# Altium footprint library Protel 99SE BANKS PCB.PCBLIB: 278 footprints (part 17 of 18)
Each footprint in its own frame and in the unit in brackets; x right, y up, seen from the top. Pads: shape width x height; smd on the part's side, far side on the other; paste and mask are expansions set on the pad; w line width, h text height; cw(c..) or ccw(c..) is an arc to the next point about the centre after c.
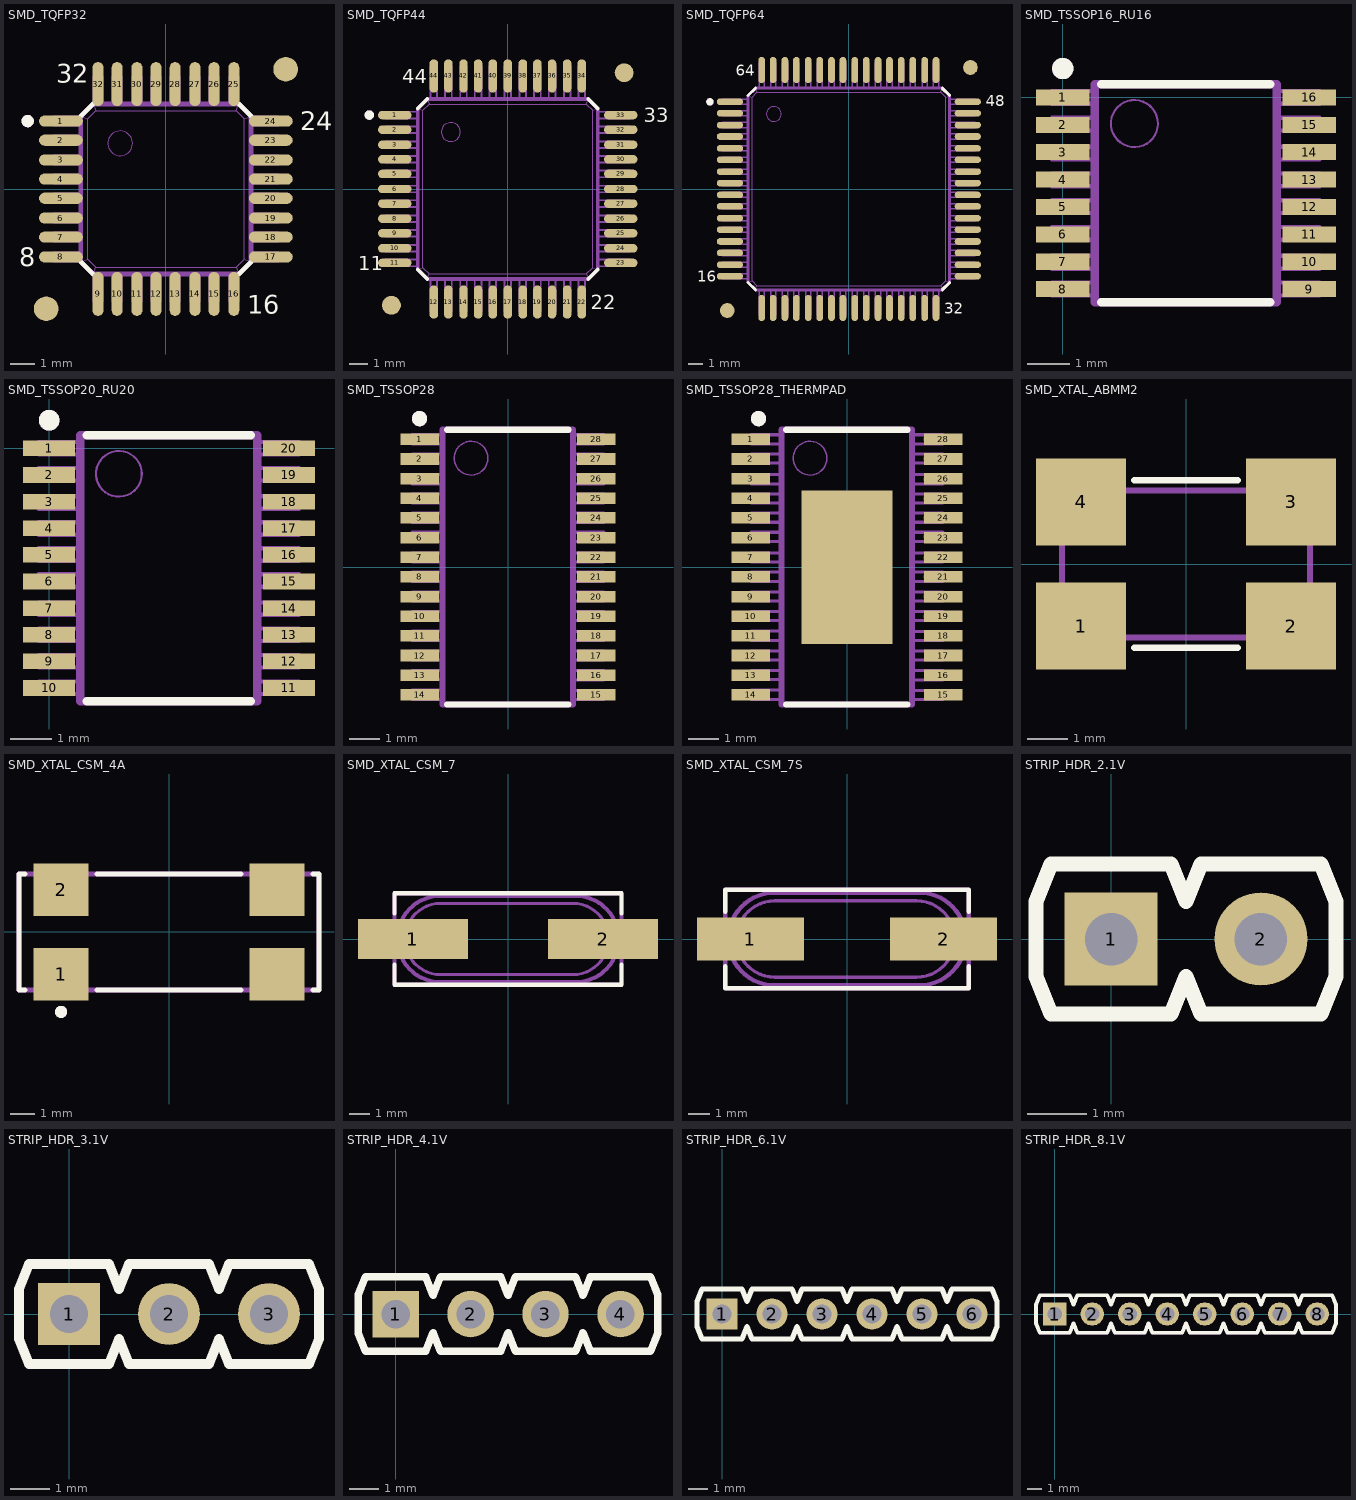
[diagram p16: the footprints below, top view; thin cyan lines are the x and y axes]

## SMD_TQFP32 [mil]
pads (34):
  oval 71x18 smd: 1(-170,110) 2(-170,79) 3(-170,47) 4(-170,16) 5(-170,-15) 6(-170,-47) 7(-170,-78) 8(-170,-110) 17(170,-110) 18(170,-78) 19(170,-47) 20(170,-15) 21(170,16) 22(170,47) 23(170,79) 24(170,110)
  oval 18x71 smd: 9(-110,-170) 10(-79,-170) 11(-47,-170) 12(-16,-170) 13(15,-170) 14(47,-170) 15(78,-170) 16(110,-170) 25(110,170) 26(78,170) 27(47,170) 28(15,170) 29(-16,170) 30(-47,170) 31(-79,170) 32(-110,170)
  round 40 smd: ""(-194,-194) ""(194,194)
TopOverlay:
  circle w8: c-224,110 r6
  lines w8: -228,110 -220,110 ; -224,106 -224,114 ; -138,-118 -118,-138 ; -138,118 -118,138 ; 118,-138 138,-118 ; 118,138 138,118
  text "8" at -238,-125 h30
  text "24" at 218,95 h30
  text "16" at 132,-202 h30
  text "32" at -178,172 h30
Mechanical3:
  drawing of 188 lines, arcs and shapes, not listed

## SMD_TQFP44 [mil]
pads (46):
  oval 71x18 smd: 1(-240,157) 2(-240,126) 3(-240,94) 4(-240,63) 5(-240,32) 6(-240,0) 7(-240,-31) 8(-240,-63) 9(-240,-94) 10(-240,-126) 11(-240,-157) 23(240,-157) 24(240,-126) 25(240,-94) 26(240,-63) 27(240,-31) 28(240,0) 29(240,32) 30(240,63) 31(240,94) 32(240,126) 33(240,157)
  oval 18x71 smd: 12(-157,-240) 13(-126,-240) 14(-94,-240) 15(-63,-240) 16(-32,-240) 17(0,-240) 18(32,-240) 19(63,-240) 20(94,-240) 21(126,-240) 22(157,-240) 34(157,240) 35(126,240) 36(94,240) 37(63,240) 38(32,240) 39(0,240) 40(-32,240) 41(-63,240) 42(-94,240) 43(-126,240) 44(-157,240)
  round 40 smd: ""(-247,-247) ""(247,247)
TopOverlay:
  circle w8: c-294,157 r6
  lines w8: -298,157 -290,157 ; -294,153 -294,161 ; -191,-171 -171,-191 ; -191,171 -171,191 ; 171,-191 191,-171 ; 171,191 191,171
  text "11" at -318,-172 h30
  text "33" at 289,142 h30
  text "22" at 176,-255 h30
  text "44" at -224,225 h30
Mechanical3:
  drawing of 248 lines, arcs and shapes, not listed

## SMD_TQFP64 [mil]
pads (66):
  oval 71x18 smd: 1(-322,236) 2(-322,205) 3(-322,173) 4(-322,142) 5(-322,110) 6(-322,79) 7(-322,47) 8(-322,16) 9(-322,-16) 10(-322,-47) 11(-322,-79) 12(-322,-110) 13(-322,-142) 14(-322,-173) 15(-322,-205) 16(-322,-236) 33(322,-236) 34(322,-205) 35(322,-173) 36(322,-142) 37(322,-110) 38(322,-79) 39(322,-47) 40(322,-16) 41(322,16) 42(322,47) 43(322,79) 44(322,110) 45(322,142) 46(322,173) 47(322,205) 48(322,236)
  oval 18x71 smd: 17(-236,-322) 18(-205,-322) 19(-173,-322) 20(-142,-322) 21(-110,-322) 22(-79,-322) 23(-47,-322) 24(-16,-322) 25(16,-322) 26(47,-322) 27(79,-322) 28(110,-322) 29(142,-322) 30(173,-322) 31(205,-322) 32(236,-322) 49(236,322) 50(205,322) 51(173,322) 52(142,322) 53(110,322) 54(79,322) 55(47,322) 56(16,322) 57(-16,322) 58(-47,322) 59(-79,322) 60(-110,322) 61(-142,322) 62(-173,322) 63(-205,322) 64(-236,322)
  round 40 smd: ""(-329,-329) ""(329,329)
TopOverlay:
  circle w8: c-376,236 r6
  lines w8: -380,236 -372,236 ; -376,232 -376,240 ; -273,-253 -253,-273 ; -273,253 -253,273 ; 253,-273 273,-253 ; 253,273 273,253
  text "64" at -306,307 h30
  text "32" at 258,-337 h30
  text "48" at 371,224 h30
  text "16" at -411,-251 h30
Mechanical3:
  drawing of 348 lines, arcs and shapes, not listed

## SMD_TSSOP16_RU16 [mm]
pads (16):
  rect 1.27x0.381 smd: 1(0,0) 2(0,-0.65) 3(0,-1.3) 4(0,-1.95) 5(0,-2.6) 6(0,-3.25) 7(0,-3.9) 8(0,-4.55) 9(5.85,-4.55) 10(5.85,-3.9) 11(5.85,-3.25) 12(5.85,-2.6) 13(5.85,-1.95) 14(5.85,-1.3) 15(5.85,-0.65) 16(5.85,0)
TopOverlay:
  circle w0.203: c0,0.686 r0.152
  lines w0.203: -0.102,0.686 0.102,0.686 ; 0,0.584 0,0.787 ; 0.914,-4.864 4.928,-4.864 ; 0.914,0.318 4.928,0.318
Mechanical3:
  circle w0.203: c0,0.686 r0.152
  circle w0.051: c1.702,-0.622 r0.559
  lines w0.051: 0.076,-4.597 0.076,-4.496 ; 0.076,-3.962 0.076,-3.861 ; 0.076,-3.277 0.076,-3.175 ; 0.076,-2.642 0.076,-2.54 ; 0.076,-2.007 0.076,-1.905 ; 0.076,-1.372 0.076,-1.27 ; 0.076,-0.686 0.076,-0.584 ; 0.076,-0.051 0.076,0.051 ; 0.356,-4.597 0.356,-4.496 ; 0.356,-3.962 0.356,-3.861 ; 0.356,-3.277 0.356,-3.175 ; 0.356,-2.642 0.356,-2.54 ; 0.356,-2.007 0.356,-1.905 ; 0.356,-1.372 0.356,-1.27 ; 0.356,-0.686 0.356,-0.584 ; 0.356,-0.051 0.356,0.051 ; 5.486,-4.597 5.486,-4.496 ; 5.486,-3.962 5.486,-3.861 ; 5.486,-3.277 5.486,-3.175 ; 5.486,-2.642 5.486,-2.54 ; 5.486,-2.007 5.486,-1.905 ; 5.486,-1.372 5.486,-1.27 ; 5.486,-0.686 5.486,-0.584 ; 5.486,-0.051 5.486,0.051 ; 5.766,-4.597 5.766,-4.496 ; 5.766,-3.962 5.766,-3.861 ; 5.766,-3.277 5.766,-3.175 ; 5.766,-2.642 5.766,-2.54 ; 5.766,-2.007 5.766,-1.905 ; 5.766,-1.372 5.766,-1.27 ; 5.766,-0.686 5.766,-0.584 ; 5.766,-0.051 5.766,0.051
  lines w0.102: 0.762,-4.699 -0.254,-4.699 -0.254,-4.394 0.762,-4.394 ; 0.762,-4.064 -0.254,-4.064 -0.254,-3.759 0.762,-3.759 ; 0.762,-3.378 -0.254,-3.378 -0.254,-3.073 0.762,-3.073 ; 0.762,-2.743 -0.254,-2.743 -0.254,-2.438 0.762,-2.438 ; 0.762,-2.108 -0.254,-2.108 -0.254,-1.803 0.762,-1.803 ; 0.762,-1.473 -0.254,-1.473 -0.254,-1.168 0.762,-1.168 ; 0.762,-0.787 -0.254,-0.787 -0.254,-0.483 0.762,-0.483 ; 0.762,-0.152 -0.254,-0.152 -0.254,0.152 0.762,0.152 ; 5.08,-4.699 6.096,-4.699 6.096,-4.394 5.08,-4.394 ; 5.08,-4.064 6.096,-4.064 6.096,-3.759 5.08,-3.759 ; 5.08,-3.378 6.096,-3.378 6.096,-3.073 5.08,-3.073 ; 5.08,-2.743 6.096,-2.743 6.096,-2.438 5.08,-2.438 ; 5.08,-2.108 6.096,-2.108 6.096,-1.803 5.08,-1.803 ; 5.08,-1.473 6.096,-1.473 6.096,-1.168 5.08,-1.168 ; 5.08,-0.787 6.096,-0.787 6.096,-0.483 5.08,-0.483 ; 5.08,-0.152 6.096,-0.152 6.096,0.152 5.08,0.152
  lines w0.203: -0.102,0.686 0.102,0.686 ; 0,0.584 0,0.787 ; 0.762,-4.864 0.762,0.318 5.08,0.318 5.08,-4.864 0.762,-4.864

## SMD_TSSOP20_RU20 [mm]
pads (20):
  rect 1.27x0.381 smd: 1(0,0) 2(0,-0.65) 3(0,-1.3) 4(0,-1.95) 5(0,-2.6) 6(0,-3.25) 7(0,-3.9) 8(0,-4.55) 9(0,-5.2) 10(0,-5.85) 11(5.85,-5.85) 12(5.85,-5.2) 13(5.85,-4.55) 14(5.85,-3.9) 15(5.85,-3.25) 16(5.85,-2.6) 17(5.85,-1.95) 18(5.85,-1.3) 19(5.85,-0.65) 20(5.85,0)
TopOverlay:
  circle w0.203: c0,0.686 r0.152
  lines w0.203: -0.102,0.686 0.102,0.686 ; 0,0.584 0,0.787 ; 0.914,-6.172 4.928,-6.172 ; 0.914,0.318 4.928,0.318
Mechanical3:
  circle w0.051: c1.702,-0.622 r0.559
  circle w0.203: c0,0.686 r0.152
  lines w0.051: 0.076,-5.897 0.076,-5.796 ; 0.076,-5.247 0.076,-5.146 ; 0.076,-4.597 0.076,-4.496 ; 0.076,-3.962 0.076,-3.861 ; 0.076,-3.277 0.076,-3.175 ; 0.076,-2.642 0.076,-2.54 ; 0.076,-2.007 0.076,-1.905 ; 0.076,-1.372 0.076,-1.27 ; 0.076,-0.686 0.076,-0.584 ; 0.076,-0.051 0.076,0.051 ; 0.356,-5.897 0.356,-5.796 ; 0.356,-5.247 0.356,-5.146 ; 0.356,-4.597 0.356,-4.496 ; 0.356,-3.962 0.356,-3.861 ; 0.356,-3.277 0.356,-3.175 ; 0.356,-2.642 0.356,-2.54 ; 0.356,-2.007 0.356,-1.905 ; 0.356,-1.372 0.356,-1.27 ; 0.356,-0.686 0.356,-0.584 ; 0.356,-0.051 0.356,0.051 ; 5.486,-5.897 5.486,-5.796 ; 5.486,-5.247 5.486,-5.146 ; 5.486,-4.597 5.486,-4.496 ; 5.486,-3.962 5.486,-3.861 ; 5.486,-3.277 5.486,-3.175 ; 5.486,-2.642 5.486,-2.54 ; 5.486,-2.007 5.486,-1.905 ; 5.486,-1.372 5.486,-1.27 ; 5.486,-0.686 5.486,-0.584 ; 5.486,-0.051 5.486,0.051 ; 5.766,-5.897 5.766,-5.796 ; 5.766,-5.247 5.766,-5.146 ; 5.766,-4.597 5.766,-4.496 ; 5.766,-3.962 5.766,-3.861 ; 5.766,-3.277 5.766,-3.175 ; 5.766,-2.642 5.766,-2.54 ; 5.766,-2.007 5.766,-1.905 ; 5.766,-1.372 5.766,-1.27 ; 5.766,-0.686 5.766,-0.584 ; 5.766,-0.051 5.766,0.051
  lines w0.102: 0.762,-5.999 -0.254,-5.999 -0.254,-5.694 0.762,-5.694 ; 0.762,-5.349 -0.254,-5.349 -0.254,-5.044 0.762,-5.044 ; 0.762,-4.699 -0.254,-4.699 -0.254,-4.394 0.762,-4.394 ; 0.762,-4.064 -0.254,-4.064 -0.254,-3.759 0.762,-3.759 ; 0.762,-3.378 -0.254,-3.378 -0.254,-3.073 0.762,-3.073 ; 0.762,-2.743 -0.254,-2.743 -0.254,-2.438 0.762,-2.438 ; 0.762,-2.108 -0.254,-2.108 -0.254,-1.803 0.762,-1.803 ; 0.762,-1.473 -0.254,-1.473 -0.254,-1.168 0.762,-1.168 ; 0.762,-0.787 -0.254,-0.787 -0.254,-0.483 0.762,-0.483 ; 0.762,-0.152 -0.254,-0.152 -0.254,0.152 0.762,0.152 ; 5.08,-5.999 6.096,-5.999 6.096,-5.694 5.08,-5.694 ; 5.08,-5.349 6.096,-5.349 6.096,-5.044 5.08,-5.044 ; 5.08,-4.699 6.096,-4.699 6.096,-4.394 5.08,-4.394 ; 5.08,-4.064 6.096,-4.064 6.096,-3.759 5.08,-3.759 ; 5.08,-3.378 6.096,-3.378 6.096,-3.073 5.08,-3.073 ; 5.08,-2.743 6.096,-2.743 6.096,-2.438 5.08,-2.438 ; 5.08,-2.108 6.096,-2.108 6.096,-1.803 5.08,-1.803 ; 5.08,-1.473 6.096,-1.473 6.096,-1.168 5.08,-1.168 ; 5.08,-0.787 6.096,-0.787 6.096,-0.483 5.08,-0.483 ; 5.08,-0.152 6.096,-0.152 6.096,0.152 5.08,0.152
  lines w0.203: -0.102,0.686 0.102,0.686 ; 0,0.584 0,0.787 ; 0.762,0.305 0.762,-6.172 5.08,-6.172 5.08,0.305 ; 0.762,0.318 5.08,0.318

## SMD_TSSOP28 [mm]
pads (28):
  rect 1.27x0.381 smd: 1(-2.925,4.225) 2(-2.925,3.575) 3(-2.925,2.925) 4(-2.925,2.275) 5(-2.925,1.625) 6(-2.925,0.975) 7(-2.925,0.325) 8(-2.925,-0.325) 9(-2.925,-0.975) 10(-2.925,-1.625) 11(-2.925,-2.275) 12(-2.925,-2.925) 13(-2.925,-3.575) 14(-2.925,-4.225) 15(2.925,-4.225) 16(2.925,-3.575) 17(2.925,-2.925) 18(2.925,-2.275) 19(2.925,-1.625) 20(2.925,-0.975) 21(2.925,-0.325) 22(2.925,0.325) 23(2.925,0.975) 24(2.925,1.625) 25(2.925,2.275) 26(2.925,2.925) 27(2.925,3.575) 28(2.925,4.225)
TopOverlay:
  circle w0.203: c-2.925,4.911 r0.152
  lines w0.203: -3.027,4.911 -2.823,4.911 ; -2.925,4.809 -2.925,5.012 ; -2.011,-4.547 2.003,-4.547 ; -2.011,4.543 2.003,4.543
Mechanical3:
  circle w0.203: c-2.925,4.911 r0.152
  circle w0.051: c-1.223,3.603 r0.559
  lines w0.051: -2.849,-4.272 -2.849,-4.171 ; -2.849,-3.622 -2.849,-3.521 ; -2.849,-2.972 -2.849,-2.871 ; -2.849,-2.322 -2.849,-2.221 ; -2.849,-1.672 -2.849,-1.571 ; -2.849,-1.022 -2.849,-0.921 ; -2.849,-0.372 -2.849,-0.271 ; -2.849,0.263 -2.849,0.364 ; -2.849,0.948 -2.849,1.05 ; -2.849,1.583 -2.849,1.685 ; -2.849,2.218 -2.849,2.32 ; -2.849,2.853 -2.849,2.955 ; -2.849,3.539 -2.849,3.641 ; -2.849,4.174 -2.849,4.276 ; -2.569,-4.272 -2.569,-4.171 ; -2.569,-3.622 -2.569,-3.521 ; -2.569,-2.972 -2.569,-2.871 ; -2.569,-2.322 -2.569,-2.221 ; -2.569,-1.672 -2.569,-1.571 ; -2.569,-1.022 -2.569,-0.921 ; -2.569,-0.372 -2.569,-0.271 ; -2.569,0.263 -2.569,0.364 ; -2.569,0.948 -2.569,1.05 ; -2.569,1.583 -2.569,1.685 ; -2.569,2.218 -2.569,2.32 ; -2.569,2.853 -2.569,2.955 ; -2.569,3.539 -2.569,3.641 ; -2.569,4.174 -2.569,4.276 ; 2.561,-1.672 2.561,-1.571 ; 2.561,-1.022 2.561,-0.921 ; 2.561,-0.372 2.561,-0.271 ; 2.561,0.263 2.561,0.364 ; 2.561,0.948 2.561,1.05 ; 2.561,1.583 2.561,1.685 ; 2.561,2.218 2.561,2.32 ; 2.561,2.853 2.561,2.955 ; 2.561,3.539 2.561,3.641 ; 2.561,4.174 2.561,4.276 ; 2.569,-4.279 2.569,-4.178 ; 2.569,-3.629 2.569,-3.528 ; 2.569,-2.979 2.569,-2.878 ; 2.569,-2.329 2.569,-2.228 ; 2.841,-1.672 2.841,-1.571 ; 2.841,-1.022 2.841,-0.921 ; 2.841,-0.372 2.841,-0.271 ; 2.841,0.263 2.841,0.364 ; 2.841,0.948 2.841,1.05 ; 2.841,1.583 2.841,1.685 ; 2.841,2.218 2.841,2.32 ; 2.841,2.853 2.841,2.955 ; 2.841,3.539 2.841,3.641 ; 2.841,4.174 2.841,4.276 ; 2.849,-4.279 2.849,-4.178 ; 2.849,-3.629 2.849,-3.528 ; 2.849,-2.979 2.849,-2.878 ; 2.849,-2.329 2.849,-2.228
  lines w0.102: -2.163,-4.374 -3.179,-4.374 -3.179,-4.069 -2.163,-4.069 ; -2.163,-3.724 -3.179,-3.724 -3.179,-3.419 -2.163,-3.419 ; -2.163,-3.074 -3.179,-3.074 -3.179,-2.769 -2.163,-2.769 ; -2.163,-2.424 -3.179,-2.424 -3.179,-2.119 -2.163,-2.119 ; -2.163,-1.774 -3.179,-1.774 -3.179,-1.469 -2.163,-1.469 ; -2.163,-1.124 -3.179,-1.124 -3.179,-0.819 -2.163,-0.819 ; -2.163,-0.474 -3.179,-0.474 -3.179,-0.169 -2.163,-0.169 ; -2.163,0.161 -3.179,0.161 -3.179,0.466 -2.163,0.466 ; -2.163,0.847 -3.179,0.847 -3.179,1.152 -2.163,1.152 ; -2.163,1.482 -3.179,1.482 -3.179,1.787 -2.163,1.787 ; -2.163,2.117 -3.179,2.117 -3.179,2.422 -2.163,2.422 ; -2.163,2.752 -3.179,2.752 -3.179,3.057 -2.163,3.057 ; -2.163,3.438 -3.179,3.438 -3.179,3.742 -2.163,3.742 ; -2.163,4.073 -3.179,4.073 -3.179,4.377 -2.163,4.377 ; 2.155,-1.774 3.171,-1.774 3.171,-1.469 2.155,-1.469 ; 2.155,-1.124 3.171,-1.124 3.171,-0.819 2.155,-0.819 ; 2.155,-0.474 3.171,-0.474 3.171,-0.169 2.155,-0.169 ; 2.155,0.161 3.171,0.161 3.171,0.466 2.155,0.466 ; 2.155,0.847 3.171,0.847 3.171,1.152 2.155,1.152 ; 2.155,1.482 3.171,1.482 3.171,1.787 2.155,1.787 ; 2.155,2.117 3.171,2.117 3.171,2.422 2.155,2.422 ; 2.155,2.752 3.171,2.752 3.171,3.057 2.155,3.057 ; 2.155,3.438 3.171,3.438 3.171,3.742 2.155,3.742 ; 2.155,4.073 3.171,4.073 3.171,4.377 2.155,4.377 ; 2.163,-4.381 3.179,-4.381 3.179,-4.076 2.163,-4.076 ; 2.163,-3.731 3.179,-3.731 3.179,-3.426 2.163,-3.426 ; 2.163,-3.081 3.179,-3.081 3.179,-2.776 2.163,-2.776 ; 2.163,-2.431 3.179,-2.431 3.179,-2.126 2.163,-2.126
  lines w0.203: -3.027,4.911 -2.823,4.911 ; -2.925,4.809 -2.925,5.012 ; -2.163,-4.547 2.155,-4.547 ; -2.163,-4.538 -2.163,-1.947 -2.163,4.53 ; -2.163,4.543 2.155,4.543 ; 2.155,-4.538 2.155,-1.947 2.155,4.53

## SMD_TSSOP28_THERMPAD [mil]
pads (29):
  rect 50x15 smd: 1(-125.16,166.34) 2(-125.16,140.75) 3(-125.16,115.16) 4(-125.16,89.57) 5(-125.16,63.98) 6(-125.16,38.39) 7(-125.16,12.8) 8(-125.16,-12.8) 9(-125.16,-38.39) 10(-125.16,-63.98) 11(-125.16,-89.57) 12(-125.16,-115.16) 13(-125.16,-140.75) 14(-125.16,-166.34) 15(125.16,-166.34) 16(125.16,-140.75) 17(125.16,-115.16) 18(125.16,-89.57) 19(125.16,-63.98) 20(125.16,-38.39) 21(125.16,-12.8) 22(125.16,12.8) 23(125.16,38.39) 24(125.16,63.98) 25(125.16,89.57) 26(125.16,115.16) 27(125.16,140.75) 28(125.16,166.34)
  rect 118x200 smd: ""(0,0)
TopOverlay:
  circle w8: c-115.16,193.34 r6
  lines w8: -119.16,193.34 -111.16,193.34 ; -115.16,189.34 -115.16,197.34 ; -79.16,-179.02 78.84,-179.02 ; -79.16,178.84 78.84,178.84
Mechanical3:
  circle w2: c-48.16,141.84 r22
  circle w8: c-115.16,193.34 r6
  lines w2: -112.16,-168.2 -112.16,-164.2 ; -112.16,-142.61 -112.16,-138.61 ; -112.16,-117.02 -112.16,-113.02 ; -112.16,-91.43 -112.16,-87.43 ; -112.16,-65.84 -112.16,-61.84 ; -112.16,-40.25 -112.16,-36.25 ; -112.16,-14.66 -112.16,-10.66 ; -112.16,10.34 -112.16,14.34 ; -112.16,37.34 -112.16,41.34 ; -112.16,62.34 -112.16,66.34 ; -112.16,87.34 -112.16,91.34 ; -112.16,112.34 -112.16,116.34 ; -112.16,139.34 -112.16,143.34 ; -112.16,164.34 -112.16,168.34 ; -101.16,-168.2 -101.16,-164.2 ; -101.16,-142.61 -101.16,-138.61 ; -101.16,-117.02 -101.16,-113.02 ; -101.16,-91.43 -101.16,-87.43 ; -101.16,-65.84 -101.16,-61.84 ; -101.16,-40.25 -101.16,-36.25 ; -101.16,-14.66 -101.16,-10.66 ; -101.16,10.34 -101.16,14.34 ; -101.16,37.34 -101.16,41.34 ; -101.16,62.34 -101.16,66.34 ; -101.16,87.34 -101.16,91.34 ; -101.16,112.34 -101.16,116.34 ; -101.16,139.34 -101.16,143.34 ; -101.16,164.34 -101.16,168.34 ; 100.84,-65.84 100.84,-61.84 ; 100.84,-40.25 100.84,-36.25 ; 100.84,-14.66 100.84,-10.66 ; 100.84,10.34 100.84,14.34 ; 100.84,37.34 100.84,41.34 ; 100.84,62.34 100.84,66.34 ; 100.84,87.34 100.84,91.34 ; 100.84,112.34 100.84,116.34 ; 100.84,139.34 100.84,143.34 ; 100.84,164.34 100.84,168.34 ; 101.16,-168.47 101.16,-164.47 ; 101.16,-142.88 101.16,-138.88 ; 101.16,-117.29 101.16,-113.29 ; 101.16,-91.7 101.16,-87.7 ; 111.84,-65.84 111.84,-61.84 ; 111.84,-40.25 111.84,-36.25 ; 111.84,-14.66 111.84,-10.66 ; 111.84,10.34 111.84,14.34 ; 111.84,37.34 111.84,41.34 ; 111.84,62.34 111.84,66.34 ; 111.84,87.34 111.84,91.34 ; 111.84,112.34 111.84,116.34 ; 111.84,139.34 111.84,143.34 ; 111.84,164.34 111.84,168.34 ; 112.16,-168.47 112.16,-164.47 ; 112.16,-142.88 112.16,-138.88 ; 112.16,-117.29 112.16,-113.29 ; 112.16,-91.7 112.16,-87.7
  lines w4: -85.16,-172.2 -125.16,-172.2 -125.16,-160.2 -85.16,-160.2 ; -85.16,-146.61 -125.16,-146.61 -125.16,-134.61 -85.16,-134.61 ; -85.16,-121.02 -125.16,-121.02 -125.16,-109.02 -85.16,-109.02 ; -85.16,-95.43 -125.16,-95.43 -125.16,-83.43 -85.16,-83.43 ; -85.16,-69.84 -125.16,-69.84 -125.16,-57.84 -85.16,-57.84 ; -85.16,-44.25 -125.16,-44.25 -125.16,-32.25 -85.16,-32.25 ; -85.16,-18.66 -125.16,-18.66 -125.16,-6.66 -85.16,-6.66 ; -85.16,6.34 -125.16,6.34 -125.16,18.34 -85.16,18.34 ; -85.16,33.34 -125.16,33.34 -125.16,45.34 -85.16,45.34 ; -85.16,58.34 -125.16,58.34 -125.16,70.34 -85.16,70.34 ; -85.16,83.34 -125.16,83.34 -125.16,95.34 -85.16,95.34 ; -85.16,108.34 -125.16,108.34 -125.16,120.34 -85.16,120.34 ; -85.16,135.34 -125.16,135.34 -125.16,147.34 -85.16,147.34 ; -85.16,160.34 -125.16,160.34 -125.16,172.34 -85.16,172.34 ; 84.84,-69.84 124.84,-69.84 124.84,-57.84 84.84,-57.84 ; 84.84,-44.25 124.84,-44.25 124.84,-32.25 84.84,-32.25 ; 84.84,-18.66 124.84,-18.66 124.84,-6.66 84.84,-6.66 ; 84.84,6.34 124.84,6.34 124.84,18.34 84.84,18.34 ; 84.84,33.34 124.84,33.34 124.84,45.34 84.84,45.34 ; 84.84,58.34 124.84,58.34 124.84,70.34 84.84,70.34 ; 84.84,83.34 124.84,83.34 124.84,95.34 84.84,95.34 ; 84.84,108.34 124.84,108.34 124.84,120.34 84.84,120.34 ; 84.84,135.34 124.84,135.34 124.84,147.34 84.84,147.34 ; 84.84,160.34 124.84,160.34 124.84,172.34 84.84,172.34 ; 85.16,-172.47 125.16,-172.47 125.16,-160.47 85.16,-160.47 ; 85.16,-146.88 125.16,-146.88 125.16,-134.88 85.16,-134.88 ; 85.16,-121.29 125.16,-121.29 125.16,-109.29 85.16,-109.29 ; 85.16,-95.7 125.16,-95.7 125.16,-83.7 85.16,-83.7
  lines w8: -119.16,193.34 -111.16,193.34 ; -115.16,189.34 -115.16,197.34 ; -85.16,-179.02 84.84,-179.02 ; -85.16,-178.66 -85.16,-76.66 -85.16,178.34 ; -85.16,178.84 84.84,178.84 ; 84.84,-178.66 84.84,-76.66 84.84,178.34

## SMD_XTAL_ABMM2 [mil]
pads (4):
  rect 87x84 smd: 1(-101.5,-60) 2(101.5,-60) 3(101.5,60) 4(-101.5,60)
TopOverlay:
  lines w6: -50,-81 50,-81 ; -50,81 50,81
Mechanical3:
  lines w6: -120,-35.5 -120,61 -110,71 -90,71 -30,71 0,71 110,71 120,61 120,-61 110,-71 -110,-71 -120,-61 -120,-35

## SMD_XTAL_CSM_4A [mil]
pads (4):
  rect 90x86 smd: 1(-177,-69) 2(-177,69) ""(177,-69) ""(177,69)
TopOverlay:
  circle w8: c-177,-131 r6
  lines w8: -236,-95 -246,-95 -246,95 -236,95 ; -181,-131 -173,-131 ; -177,-135 -177,-127 ; -118,-95 118,-95 ; -118,95 118,95 ; 236,-95 246,-95 246,95 236,95
Mechanical3:
  circle w8: c-177,-131 r6
  lines w8: -181,-131 -173,-131 ; -177,-135 -177,-127 ; -246,-95 246,-95 246,95 -246,95 -246,-95

## SMD_XTAL_CSM_7 [mil]
pads (2):
  rect 216x78 smd: 1(-187,0) 2(187,0)
TopOverlay:
  lines w8: -223,-50 -223,-90 223,-90 223,-50 ; -223,50 -223,90 223,90 223,50
Mechanical3:
  lines w4: -223,-12 -250,-12 -250,12 -223,12 ; 223,-12 250,-12 250,12 223,12
  lines w6: -132.5,-70 cw(c-132.5,0) -132.5,70 127.5,70 cw(c127.5,0) 127.5,-70 -132.5,-70
  lines w8: -223,-90 223,-90 223,90 -223,90 -223,-90 ; -132.5,-85 cw(c-132.5,0) -132.5,85 132.5,85 cw(c132.5,0) 132.5,-85 -132.5,-85

## SMD_XTAL_CSM_7S [mil]
pads (2):
  rect 196x78 smd: 1(-177,0) 2(177,0)
TopOverlay:
  lines w8: -223,-50 -223,-90 223,-90 223,-50 ; -223,50 -223,90 223,90 223,50
Mechanical3:
  lines w4: -223,-12 -250,-12 -250,12 -223,12 ; 223,-12 250,-12 250,12 223,12
  lines w6: -132.5,-70 cw(c-132.5,0) -132.5,70 127.5,70 cw(c127.5,0) 127.5,-70 -132.5,-70
  lines w8: -223,-90 -223,90 223,90 223,-90 -223,-90 ; -132.5,-85 cw(c-132.5,0) -132.5,85 132.5,85 cw(c132.5,0) 132.5,-85 -132.5,-85

## STRIP_HDR_2.1V [mil]
pads (2):
  rect 62x62 hole 35: 1(0,0)
  round 62 hole 35: 2(100,0)
TopOverlay:
  lines w10: -50,-25 -50,25 -40,50 40,50 50,25 60,50 140,50 150,25 150,-25 140,-50 60,-50 50,-25 40,-50 -40,-50 -50,-25
Mechanical3:
  lines w2: -13,-13 -5,-5 ; -13,13 -5,5 ; 13,-13 5,-5 ; 13,13 5,5 ; 87,-13 95,-5 ; 87,13 95,5 ; 113,-13 105,-5 ; 113,13 105,5 ; -5,-5 -5,5 ; -5,-5 5,-5 ; -5,5 5,5 ; 5,-5 5,5 ; 95,-5 95,5 ; 95,-5 105,-5 ; 95,5 105,5 ; 105,-5 105,5
  lines w4: -13,-13 -13,13 13,13 13,-13 -13,-13 ; 87,-13 87,13 113,13 113,-13 87,-13
  lines w8: -50,-25 -40,-50 40,-50 50,-25 60,-50 140,-50 150,-25 150,25 140,50 60,50 50,25 40,50 -40,50 -50,25 -50,-25

## STRIP_HDR_3.1V [mil]
pads (3):
  rect 62x62 hole 38: 1(0,0)
  round 62 hole 38: 2(100,0) 3(200,0)
TopOverlay:
  lines w10: 140,-50 150,-25 ; 140,-50 60,-50 50,-25 40,-50 -40,-50 -50,-25 -50,25 -40,50 40,50 50,25 60,50 140,50 ; 140,-50 150,-25 ; 140,50 150,25 ; 140,50 150,25 ; 150,-25 160,-50 240,-50 ; 150,25 160,50 240,50 ; 240,-50 250,-25 ; 240,-50 250,-25 ; 240,50 250,25 ; 240,50 250,25 ; 250,-25 250,25
Mechanical3:
  lines w2: -13,-13 -5,-5 ; -13,13 -5,5 ; 13,-13 5,-5 ; 13,13 5,5 ; 87,-13 95,-5 ; 87,13 95,5 ; 113,-13 105,-5 ; 113,13 105,5 ; 187,-13 195,-5 ; 187,13 195,5 ; 213,-13 205,-5 ; 213,13 205,5 ; -5,-5 -5,5 ; -5,-5 5,-5 ; -5,5 5,5 ; 5,-5 5,5 ; 95,-5 95,5 ; 95,-5 105,-5 ; 95,5 105,5 ; 105,-5 105,5 ; 195,-5 195,5 ; 195,-5 205,-5 ; 195,5 205,5 ; 205,-5 205,5
  lines w4: -13,-13 -13,13 13,13 13,-13 -13,-13 ; 87,-13 87,13 113,13 113,-13 87,-13 ; 187,-13 187,13 213,13 213,-13 187,-13
  lines w8: 140,-50 150,-25 ; 140,-50 150,-25 ; 140,-50 60,-50 50,-25 40,-50 -40,-50 -50,-25 -50,25 -40,50 40,50 50,25 60,50 140,50 ; 140,50 150,25 ; 140,50 150,25 ; 150,-25 160,-50 240,-50 ; 150,25 160,50 240,50 ; 240,-50 250,-25 ; 240,-50 250,-25 ; 240,50 250,25 ; 240,50 250,25 ; 250,-25 250,25

## STRIP_HDR_4.1V [mil]
pads (4):
  rect 62x62 hole 38: 1(0,0)
  round 62 hole 38: 2(100,0) 3(200,0) 4(300,0)
TopOverlay:
  lines w10: 140,-50 150,-25 ; 140,-50 60,-50 50,-25 40,-50 -40,-50 -50,-25 -50,25 -40,50 40,50 50,25 60,50 140,50 ; 140,-50 150,-25 ; 140,50 150,25 ; 140,50 150,25 ; 150,-25 160,-50 240,-50 ; 150,25 160,50 240,50 ; 240,-50 250,-25 ; 240,-50 250,-25 ; 240,50 250,25 ; 240,50 250,25 ; 250,-25 260,-50 340,-50 ; 250,25 260,50 340,50 ; 340,-50 350,-25 ; 340,-50 350,-25 ; 340,50 350,25 ; 340,50 350,25 ; 350,-25 350,25
Mechanical3:
  lines w2: -13,-13 -5,-5 ; -13,13 -5,5 ; 13,-13 5,-5 ; 13,13 5,5 ; 87,-13 95,-5 ; 87,13 95,5 ; 113,-13 105,-5 ; 113,13 105,5 ; 187,-13 195,-5 ; 187,13 195,5 ; 213,-13 205,-5 ; 213,13 205,5 ; 287,-13 295,-5 ; 287,13 295,5 ; 313,-13 305,-5 ; 313,13 305,5 ; -5,-5 -5,5 ; -5,-5 5,-5 ; -5,5 5,5 ; 5,-5 5,5 ; 95,-5 95,5 ; 95,-5 105,-5 ; 95,5 105,5 ; 105,-5 105,5 ; 195,-5 195,5 ; 195,-5 205,-5 ; 195,5 205,5 ; 205,-5 205,5 ; 295,-5 295,5 ; 295,-5 305,-5 ; 295,5 305,5 ; 305,-5 305,5
  lines w4: -13,-13 -13,13 13,13 13,-13 -13,-13 ; 87,-13 87,13 113,13 113,-13 87,-13 ; 187,-13 187,13 213,13 213,-13 187,-13 ; 287,-13 287,13 313,13 313,-13 287,-13
  lines w8: 140,-50 150,-25 ; 140,-50 150,-25 ; 140,-50 60,-50 50,-25 40,-50 -40,-50 -50,-25 -50,25 -40,50 40,50 50,25 60,50 140,50 ; 140,50 150,25 ; 140,50 150,25 ; 150,-25 160,-50 240,-50 ; 150,25 160,50 240,50 ; 240,-50 250,-25 ; 240,-50 250,-25 ; 240,50 250,25 ; 240,50 250,25 ; 250,-25 260,-50 340,-50 ; 250,25 260,50 340,50 ; 340,-50 350,-25 ; 340,-50 350,-25 ; 340,50 350,25 ; 340,50 350,25 ; 350,-25 350,25

## STRIP_HDR_6.1V [mil]
pads (6):
  rect 62x62 hole 38: 1(0,0)
  round 62 hole 38: 2(100,0) 3(200,0) 4(300,0) 5(400,0) 6(500,0)
TopOverlay:
  lines w10: 140,-50 150,-25 ; 140,-50 60,-50 50,-25 40,-50 -40,-50 -50,-25 -50,25 -40,50 40,50 50,25 60,50 140,50 ; 140,-50 150,-25 ; 140,50 150,25 ; 140,50 150,25 ; 150,-25 160,-50 240,-50 ; 150,25 160,50 240,50 ; 240,-50 250,-25 ; 240,-50 250,-25 ; 240,50 250,25 ; 240,50 250,25 ; 250,-25 260,-50 340,-50 ; 250,25 260,50 340,50 ; 340,-50 350,-25 ; 340,-50 350,-25 ; 340,50 350,25 ; 340,50 350,25 ; 350,-25 360,-50 440,-50 ; 350,25 360,50 440,50 ; 440,-50 450,-25 ; 440,-50 450,-25 ; 440,50 450,25 ; 440,50 450,25 ; 450,-25 460,-50 540,-50 550,-25 550,25 540,50 460,50 450,25
Mechanical3:
  lines w2: -13,-13 -5,-5 ; -13,13 -5,5 ; 13,-13 5,-5 ; 13,13 5,5 ; 87,-13 95,-5 ; 87,13 95,5 ; 113,-13 105,-5 ; 113,13 105,5 ; 187,-13 195,-5 ; 187,13 195,5 ; 213,-13 205,-5 ; 213,13 205,5 ; 287,-13 295,-5 ; 287,13 295,5 ; 313,-13 305,-5 ; 313,13 305,5 ; 387,-13 395,-5 ; 387,13 395,5 ; 413,-13 405,-5 ; 413,13 405,5 ; 487,-13 495,-5 ; 487,13 495,5 ; 513,-13 505,-5 ; 513,13 505,5 ; -5,-5 5,-5 ; -5,-5 -5,5 ; -5,5 5,5 ; 5,-5 5,5 ; 95,-5 105,-5 ; 95,-5 95,5 ; 95,5 105,5 ; 105,-5 105,5 ; 195,-5 205,-5 ; 195,-5 195,5 ; 195,5 205,5 ; 205,-5 205,5 ; 295,-5 305,-5 ; 295,-5 295,5 ; 295,5 305,5 ; 305,-5 305,5 ; 395,-5 405,-5 ; 395,-5 395,5 ; 395,5 405,5 ; 405,-5 405,5 ; 495,-5 505,-5 ; 495,-5 495,5 ; 495,5 505,5 ; 505,-5 505,5
  lines w4: -13,-13 13,-13 13,13 -13,13 -13,-13 ; 87,-13 113,-13 113,13 87,13 87,-13 ; 187,-13 213,-13 213,13 187,13 187,-13 ; 287,-13 313,-13 313,13 287,13 287,-13 ; 387,-13 413,-13 413,13 387,13 387,-13 ; 487,-13 513,-13 513,13 487,13 487,-13
  lines w8: 140,-50 60,-50 50,-25 40,-50 -40,-50 -50,-25 -50,25 -40,50 40,50 50,25 60,50 140,50 ; 140,-50 150,-25 ; 140,-50 150,-25 ; 140,50 150,25 ; 140,50 150,25 ; 150,-25 160,-50 240,-50 ; 150,25 160,50 240,50 ; 240,-50 250,-25 ; 240,-50 250,-25 ; 240,50 250,25 ; 240,50 250,25 ; 250,-25 260,-50 340,-50 ; 250,25 260,50 340,50 ; 340,-50 350,-25 ; 340,-50 350,-25 ; 340,50 350,25 ; 340,50 350,25 ; 350,-25 360,-50 440,-50 ; 350,25 360,50 440,50 ; 440,-50 450,-25 ; 440,-50 450,-25 ; 440,50 450,25 ; 440,50 450,25 ; 450,-25 460,-50 540,-50 550,-25 550,25 540,50 460,50 450,25

## STRIP_HDR_8.1V [mil]
pads (8):
  rect 62x62 hole 38: 1(0,0)
  round 62 hole 38: 2(100,0) 3(200,0) 4(300,0) 5(400,0) 6(500,0) 7(600,0) 8(700,0)
TopOverlay:
  lines w10: 140,-50 150,-25 ; 140,-50 60,-50 50,-25 40,-50 -40,-50 -50,-25 -50,25 -40,50 40,50 50,25 60,50 140,50 ; 140,-50 150,-25 ; 140,50 150,25 ; 140,50 150,25 ; 150,-25 160,-50 240,-50 ; 150,25 160,50 240,50 ; 240,-50 250,-25 ; 240,-50 250,-25 ; 240,50 250,25 ; 240,50 250,25 ; 250,-25 260,-50 340,-50 ; 250,25 260,50 340,50 ; 340,-50 350,-25 ; 340,-50 350,-25 ; 340,50 350,25 ; 340,50 350,25 ; 350,-25 360,-50 440,-50 ; 350,25 360,50 440,50 ; 440,-50 450,-25 ; 440,-50 450,-25 ; 440,50 450,25 ; 440,50 450,25 ; 450,-25 460,-50 540,-50 550,-25 560,-50 640,-50 ; 450,25 460,50 540,50 550,25 560,50 640,50 ; 640,-50 650,-25 ; 640,-50 650,-25 ; 640,50 650,25 ; 640,50 650,25 ; 650,-25 660,-50 740,-50 750,-25 750,25 740,50 660,50 650,25
Mechanical3:
  drawing of 156 lines, arcs and shapes, not listed